# EAGLE library part VL53L0X (library NicksParts)
ST Laser rangefinder
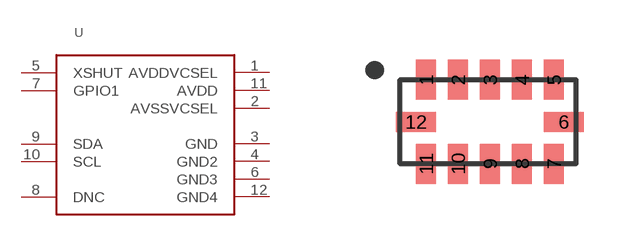
[diagram p21: symbol with the pads of VL53L0X; footprint VL53L0X]

Designator prefix U

## VL53L0X  [VL53L0X]
1  AVDDVCSEL
2  AVSSVCSEL
3  GND
4  GND2
5  XSHUT
6  GND3
7  GPIO1
8  DNC
9  SDA
10  SCL
11  AVDD
12  GND4

## Footprint VL53L0X (pad centres in mm)
smd 0.5 x 1: 1 0.25,2.1; 2 1.05,2.1; 3 1.85,2.1; 4 2.65,2.1; 5 3.45,2.1; 7 3.45,0; 8 2.65,0; 9 1.85,0; 10 1.05,0; 11 0.25,0
smd 1 x 0.5: 6 3.7,1.05; 12 0,1.05